# Altium schematic symbol library tecctrl.SchLib: 15 symbols
Pins are listed as number, name and electrical type; pins without a type are passive.

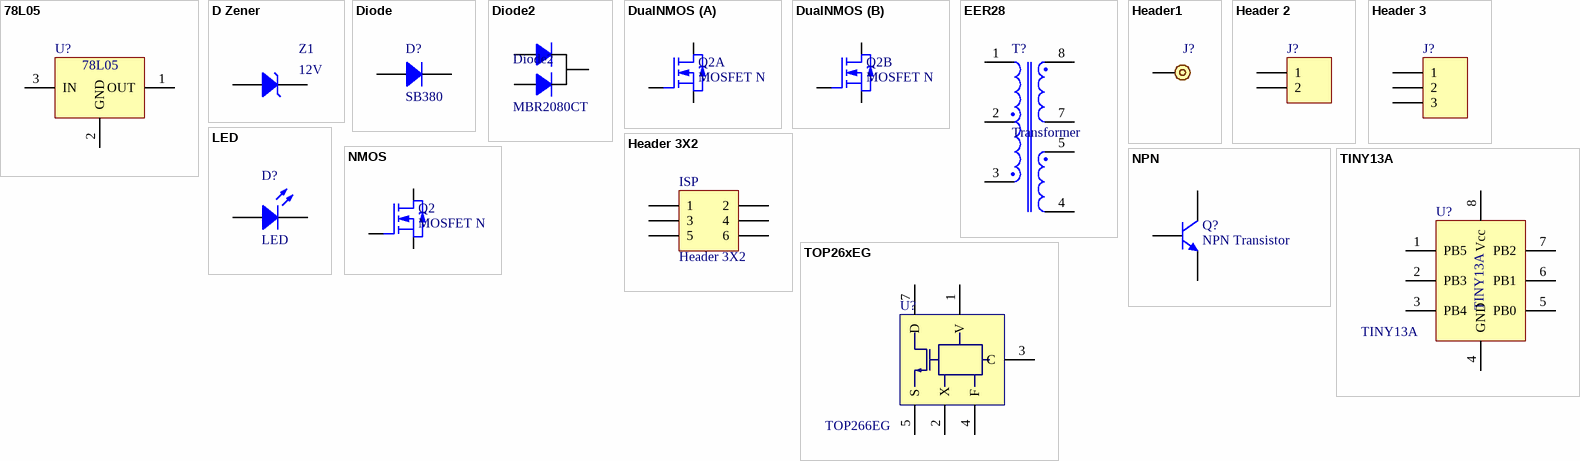
[diagram p0: symbols 78L05 to TOP26xEG]

## 78L05
designator U?
Positive Voltage Regulator; Published: 24-Aug-2001; LatestRevisionDate: 6-Jun-2005; LatestRevisionNote: PCB pads lengthened.; DatasheetDocument: Apr-1994; PackageDocument: Jun-2004; PackageReference: TO-252; Publisher: Altium Limited; ComponentLink1Description: Manufacturer Link; ComponentLink1URL: http://www.st.com/
footprint TO-92D
pins: 1 OUT (power), 2 GND (power), 3 IN (power)

## D Zener
designator Z1, comment 12V
Zener Diode; Published: 8-Jun-2000; LatestRevisionDate: 17-Jul-2002; LatestRevisionNote: Re-released for DXP Platform.; Publisher: Altium Limited
simulation model ZENER (Diode)
signal-integrity model D Zener
footprint DIO1
footprint DIO2
pins: 1 A, 2 K

## Diode
designator D?, comment SB380
1 Amp Fast Recovery Rectifier; Published: 8-Jun-2000; LatestRevisionDate: 17-Jul-2002; LatestRevisionNote: Re-released for DXP Platform.; DatasheetDocument: 1999; PackageDocument: Aug-1999; PackageReference: DO-41; Publisher: Altium Limited; ComponentLink1Description: Manufacturer Link; ComponentLink1URL: http://www.fairchildsemi.com/; Code_JEDEC: DO-204-AL
simulation model 1N4934 (DIODE)
signal-integrity model 1N4934
footprint DIO1
footprint DIO2
footprint DIO3
pins: 1 A, 2 K

## Diode2
designator Diode2, comment MBR2080CT
Dual Diode TO-247; Published: 8-Jun-2000; LatestRevisionDate: 17-Jul-2002; LatestRevisionNote: Re-released for DXP Platform.; DatasheetDocument: 1999; PackageDocument: Aug-1999; PackageReference: DO-41; Publisher: Altium Limited; ComponentLink1Description: Manufacturer Link; ComponentLink1URL: http://www.fairchildsemi.com/; Code_JEDEC: DO-204-AL
simulation model 1N4934 (DIODE)
signal-integrity model 1N4934
footprint DIO1
footprint DIO2
footprint DIO3
pins: 1 A, 2 K, 3 A

## DualNMOS
designator Q2, comment MOSFET N
DUAL MOSFET N; Published: 8-Jun-2000; LatestRevisionDate: 17-Jul-2002; LatestRevisionNote: Re-released for DXP Platform.; PackageVersion: 1995/1996; PackageReference: E3; Publisher: Altium Limited; PackageDescription: TO, Flat Index; 3 In-Line, Axial Leads; Body Dia. 4.6mm; Lead Dia. 0.5 mm (max)
part A pins: D, G, S
part B pins: D, G, S

## EER28
designator T?, comment Transformer
Published: 24-Mar-1999; LatestRevisionDate: 17-Jul-2002; LatestRevisionNote: Re-released for DXP Platform.; Publisher: Altium Limited
pins: 1, 2, 3, 4, 5, 7, 8

## Header1
designator J?
Header, 1-Pin; LatestRevisionDate: 17-Jul-2002; LatestRevisionNote: Re-released for DXP Platform.; Publisher: Altium Limited
footprint HDR1X2 (Connector; Header; 2 Position)
signal-integrity model Connector
footprint Terminal2_1 (Connector; Header; 2 Position)
pins: 1

## Header 2
designator J?
Header, 2-Pin; LatestRevisionDate: 17-Jul-2002; LatestRevisionNote: Re-released for DXP Platform.; Publisher: Altium Limited
footprint HDR1X2 (Connector; Header; 2 Position)
signal-integrity model Connector
footprint Terminal2_1 (Connector; Header; 2 Position)
pins: 1, 2

## Header 3
designator J?
Header, 3-Pin; LatestRevisionDate: 17-Jul-2002; LatestRevisionNote: Re-released for DXP Platform.; Publisher: Altium Limited
footprint HDR1X2 (Connector; Header; 2 Position)
signal-integrity model Connector
footprint Terminal2_1 (Connector; Header; 2 Position)
pins: 1, 2, 3

## Header 3X2
designator ISP
Header, 3-Pin, Dual row; LatestRevisionDate: 17-Jul-2002; LatestRevisionNote: Re-released for DXP Platform.; Publisher: Altium Limited
footprint HDR2X3 (Connector; Header; 3x2 Position)
signal-integrity model Connector
pins: 1, 2, 3, 4, 5, 6

## LED
designator D?
Typical LED; Published: 8-Jun-2000; LatestRevisionDate: 08-Jul-2005; LatestRevisionNote: Mech Layer 1 removed.; PackageReference: LED-0; Publisher: Altium Limited; PackageDescription: LED; 2 Leads
simulation model LED0 (Diode)
footprint LED1R
footprint LED1G
footprint LED1Y
footprint LED1B
footprint LED2R
footprint LED2G
footprint LED2Y
footprint LED2B
pins: 1 A, 2 K

## NMOS
designator Q2, comment MOSFET N
DUAL MOSFET N; Published: 8-Jun-2000; LatestRevisionDate: 17-Jul-2002; LatestRevisionNote: Re-released for DXP Platform.; PackageVersion: 1995/1996; PackageReference: E3; Publisher: Altium Limited; PackageDescription: TO, Flat Index; 3 In-Line, Axial Leads; Body Dia. 4.6mm; Lead Dia. 0.5 mm (max)
pins: D, G, S

## NPN
designator Q?, comment NPN Transistor
NPN Bipolar Transistor; Published: 8-Jun-2000; LatestRevisionDate: 17-Jul-2002; LatestRevisionNote: Re-released for DXP Platform.; PackageReference: TO-226-AA; Publisher: Altium Limited; PackageDescription: TO, Flat Index; 3 In-Line, Axial Leads; Body Dia. 4.8mm; Leads 0.55 x 0.51 mm (max); Code_JEDEC: TO-226-AA
simulation model NPN
signal-integrity model NPN
footprint TO-92D
pins: B, C, E

## TINY13A
designator U?
PI TinySwitch II
footprint DIP-8 (DIP; 8 Leads; Row Spacing 7.62 mm; Pitch 2.54 mm)
pins: 1 PB5 (power) "RST/ADC0", 2 PB3 (power) "CLKI/ADC3", 3 PB4 (power) "ADC2", 4 GND (power), 5 PB0 (power) "MOSI/OC0A", 6 PB1 (power) "MISO/OC0B", 7 PB2 (power) "SCK/ADC1", 8 Vcc (power)

## TOP26xEG
designator U?, comment TOP266EG
PI TopSwitch II
pins: 1 V (power), 2 X (power), 3 C (power), 4 F (power), 5 S (power), 7 D (power)